# Altium schematic symbol library WP-RAFU.SchLib: 15 symbols
Pins are listed as number, name and electrical type; pins without a type are passive.

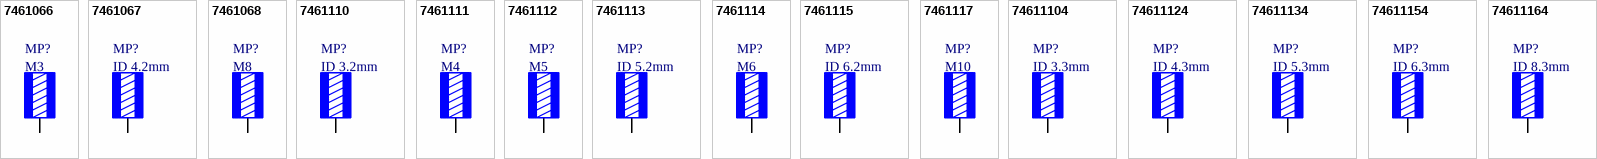
[diagram p0: symbols 7461066 to 74611164]

## 7461066
designator MP?, comment M3
WP-RAFU REDCUBE PRESS-FIT right angled, full plain, 7mm x 7mm x 14mm, M3, 130A; Manufacturer Part Number: 7461066; Manufacturer: Wurth Elektronik; Surface: Tin; Category: REDCUBE PRESS-FIT; Match Code: WP-RAFU; ComponentLink1Description: Website Link; ComponentLink1URL: https://www.we-online.com/redexpert/article/7461066?ad; ComponentLink2Description: Datasheet Link; ComponentLink2URL: https://www.we-online.com/redexpert/spec/7461066?ad; Mount: Press Fit; Min Operating Temperature: -55°C; Max Operating Temperature: 150°C; Packaging: Bulk; Length: 7mm; Width: 7mm; Height: 14mm; Material: Brass; Number of Pins: 9; Rated Current: 130A; Thread Size: M3
footprint 7461066_chemical surface
footprint 7461066_HAL
pins: 1

## 7461067
designator MP?, comment ID 4.2mm
WP-RAFU REDCUBE PRESS-FIT right angled, full plain, 9mm x 9mm x 14mm, ID 4.2mm, 180A; Manufacturer Part Number: 7461067; Manufacturer: Wurth Elektronik; Surface: Tin; Category: REDCUBE PRESS-FIT; Match Code: WP-RAFU; ComponentLink1Description: Website Link; ComponentLink1URL: https://www.we-online.com/redexpert/article/7461067?ad; ComponentLink2Description: Datasheet Link; ComponentLink2URL: https://www.we-online.com/redexpert/spec/7461067?ad; Mount: Press Fit; Min Operating Temperature: -55°C; Max Operating Temperature: 150°C; Packaging: Tray; Length: 9mm; Width: 9mm; Height: 14mm; Inner Diameter: 4.2mm; Material: Brass; Number of Pins: 16; Rated Current: 180A
footprint 7461067_chemical surface
footprint 7461067_HAL
pins: 1

## 7461068
designator MP?, comment M8
WP-RAFU REDCUBE PRESS-FIT right angled, full plain, 13mm x 13mm x 20mm, M8, 250A; Manufacturer Part Number: 7461068; Manufacturer: Wurth Elektronik; Surface: Tin; Category: REDCUBE PRESS-FIT; Match Code: WP-RAFU; ComponentLink1Description: Website Link; ComponentLink1URL: https://www.we-online.com/redexpert/article/7461068?ad; ComponentLink2Description: Datasheet Link; ComponentLink2URL: https://www.we-online.com/redexpert/spec/7461068?ad; Mount: Press Fit; Min Operating Temperature: -55°C; Max Operating Temperature: 150°C; Packaging: Tray; Length: 13mm; Width: 13mm; Height: 20mm; Material: Brass; Number of Pins: 25; Rated Current: 250A; Thread Size: M8
footprint 7461068_chemical surface
footprint 7461068_HAL
pins: 1

## 7461110
designator MP?, comment ID 3.2mm
WP-RAFU REDCUBE PRESS-FIT right angled, full plain, 7mm x 7mm x 14mm, ID 3.2mm, 130A; Manufacturer Part Number: 7461110; Manufacturer: Wurth Elektronik; Surface: Tin; Category: REDCUBE PRESS-FIT; Match Code: WP-RAFU; ComponentLink1Description: Website Link; ComponentLink1URL: https://www.we-online.com/redexpert/article/7461110?ad; ComponentLink2Description: Datasheet Link; ComponentLink2URL: https://www.we-online.com/redexpert/spec/7461110?ad; Mount: Press Fit; Min Operating Temperature: -55°C; Max Operating Temperature: 150°C; Packaging: Bulk; Length: 7mm; Width: 7mm; Height: 14mm; Inner Diameter: 3.2mm; Material: Brass; Number of Pins: 9; Rated Current: 130A
footprint 7461110_chemical surface
footprint 7461110_HAL
pins: 1

## 7461111
designator MP?, comment M4
WP-RAFU REDCUBE PRESS-FIT right angled, full plain, 9mm x 9mm x 14mm, M4, 180A; Manufacturer Part Number: 7461111; Manufacturer: Wurth Elektronik; Surface: Tin; Category: REDCUBE PRESS-FIT; Match Code: WP-RAFU; ComponentLink1Description: Website Link; ComponentLink1URL: https://www.we-online.com/redexpert/article/7461111?ad; ComponentLink2Description: Datasheet Link; ComponentLink2URL: https://www.we-online.com/redexpert/spec/7461111?ad; Mount: Press Fit; Min Operating Temperature: -55°C; Max Operating Temperature: 150°C; Packaging: Tray; Length: 9mm; Width: 9mm; Height: 14mm; Material: Brass; Number of Pins: 16; Rated Current: 180A; Thread Size: M4
footprint 7461111_chemical surface
footprint 7461111_HAL
pins: 1

## 7461112
designator MP?, comment M5
WP-RAFU REDCUBE PRESS-FIT right angled, full plain, 9mm x 9mm x 14mm, M5, 180A; Manufacturer Part Number: 7461112; Manufacturer: Wurth Elektronik; Surface: Tin; Category: REDCUBE PRESS-FIT; Match Code: WP-RAFU; ComponentLink1Description: Website Link; ComponentLink1URL: https://www.we-online.com/redexpert/article/7461112?ad; ComponentLink2Description: Datasheet Link; ComponentLink2URL: https://www.we-online.com/redexpert/spec/7461112?ad; Mount: Press Fit; Min Operating Temperature: -55°C; Max Operating Temperature: 150°C; Packaging: Tray; Length: 9mm; Width: 9mm; Height: 14mm; Material: Brass; Number of Pins: 16; Rated Current: 180A; Thread Size: M5
footprint 7461112_chemical surface
footprint 7461112_HAL
pins: 1

## 7461113
designator MP?, comment ID 5.2mm
WP-RAFU REDCUBE PRESS-FIT right angled, full plain, 9mm x 9mm x 14mm, ID 5.2mm, 180A; Manufacturer Part Number: 7461113; Manufacturer: Wurth Elektronik; Surface: Tin; Category: REDCUBE PRESS-FIT; Match Code: WP-RAFU; ComponentLink1Description: Website Link; ComponentLink1URL: https://www.we-online.com/redexpert/article/7461113?ad; ComponentLink2Description: Datasheet Link; ComponentLink2URL: https://www.we-online.com/redexpert/spec/7461113?ad; Mount: Press Fit; Min Operating Temperature: -55°C; Max Operating Temperature: 150°C; Packaging: Tray; Length: 9mm; Width: 9mm; Height: 14mm; Inner Diameter: 5.2mm; Material: Brass; Number of Pins: 16; Rated Current: 180A
footprint 7461113_chemical surface
footprint 7461113_HAL
pins: 1

## 7461114
designator MP?, comment M6
WP-RAFU REDCUBE PRESS-FIT right angled, full plain, 13mm x 13mm x 20mm, M6, 250A; Manufacturer Part Number: 7461114; Manufacturer: Wurth Elektronik; Surface: Tin; Category: REDCUBE PRESS-FIT; Match Code: WP-RAFU; ComponentLink1Description: Website Link; ComponentLink1URL: https://www.we-online.com/redexpert/article/7461114?ad; ComponentLink2Description: Datasheet Link; ComponentLink2URL: https://www.we-online.com/redexpert/spec/7461114?ad; Mount: Press Fit; Min Operating Temperature: -55°C; Max Operating Temperature: 150°C; Packaging: Tray; Length: 13mm; Width: 13mm; Height: 20mm; Material: Brass; Number of Pins: 25; Rated Current: 250A; Thread Size: M6
footprint 7461114_chemical surface
footprint 7461114_HAL
pins: 1

## 7461115
designator MP?, comment ID 6.2mm
WP-RAFU REDCUBE PRESS-FIT right angled, full plain, 13mm x 13mm x 20mm, ID 6.2mm, 250A; Manufacturer Part Number: 7461115; Manufacturer: Wurth Elektronik; Surface: Tin; Category: REDCUBE PRESS-FIT; Match Code: WP-RAFU; ComponentLink1Description: Website Link; ComponentLink1URL: https://www.we-online.com/redexpert/article/7461115?ad; ComponentLink2Description: Datasheet Link; ComponentLink2URL: https://www.we-online.com/redexpert/spec/7461115?ad; Mount: Press Fit; Min Operating Temperature: -55°C; Max Operating Temperature: 150°C; Packaging: Tray; Length: 13mm; Width: 13mm; Height: 20mm; Inner Diameter: 6.2mm; Material: Brass; Number of Pins: 25; Rated Current: 250A
footprint 7461115_chemical surface
footprint 7461115_HAL
pins: 1

## 7461117
designator MP?, comment M10
WP-RAFU REDCUBE PRESS-FIT right angled, full plain, 16mm x 16mm x 25mm, M10, 350A; Manufacturer Part Number: 7461117; Manufacturer: Wurth Elektronik; Surface: Tin; Category: REDCUBE PRESS-FIT; Match Code: WP-RAFU; ComponentLink1Description: Website Link; ComponentLink1URL: https://www.we-online.com/redexpert/article/7461117?ad; ComponentLink2Description: Datasheet Link; ComponentLink2URL: https://www.we-online.com/redexpert/spec/7461117?ad; Mount: Press Fit; Min Operating Temperature: -55°C; Max Operating Temperature: 150°C; Packaging: Bulk; Length: 16mm; Width: 16mm; Height: 25mm; Material: Brass; Number of Pins: 36; Rated Current: 350A; Thread Size: M10
footprint 7461117_chemical surface
footprint 7461117_HAL
pins: 1

## 74611104
designator MP?, comment ID 3.3mm
WP-RAFU REDCUBE PRESS-FIT right angled, U-shape, 9mm x 9mm x 30mm, ID 3.3mm, 180A; Manufacturer Part Number: 74611104; Manufacturer: Wurth Elektronik; Surface: Tin; Category: REDCUBE PRESS-FIT; Match Code: WP-RAFU; ComponentLink1Description: Website Link; ComponentLink1URL: https://www.we-online.com/redexpert/article/74611104?ad; ComponentLink2Description: Datasheet Link; ComponentLink2URL: https://www.we-online.com/redexpert/spec/74611104?ad; Mount: Press Fit; Min Operating Temperature: -55°C; Max Operating Temperature: 150°C; Packaging: Bulk; Length: 9mm; Width: 9mm; Height: 30mm; Inner Diameter: 3.3mm; Material: Brass; Number of Pins: 16; Rated Current: 180A
footprint 74611104_chemical surface
footprint 74611104_HAL
pins: 1

## 74611124
designator MP?, comment ID 4.3mm
WP-RAFU REDCUBE PRESS-FIT right angled, U-shape, 9mm x 9mm x 30mm, ID 4.3mm, 180A; Manufacturer Part Number: 74611124; Manufacturer: Wurth Elektronik; Surface: Tin; Category: REDCUBE PRESS-FIT; Match Code: WP-RAFU; ComponentLink1Description: Website Link; ComponentLink1URL: https://www.we-online.com/redexpert/article/74611124?ad; ComponentLink2Description: Datasheet Link; ComponentLink2URL: https://www.we-online.com/redexpert/spec/74611124?ad; Mount: Press Fit; Min Operating Temperature: -55°C; Max Operating Temperature: 150°C; Packaging: Bulk; Length: 9mm; Width: 9mm; Height: 30mm; Inner Diameter: 4.3mm; Material: Brass; Number of Pins: 16; Rated Current: 180A
footprint 74611124_chemical surface
footprint 74611124_HAL
pins: 1

## 74611134
designator MP?, comment ID 5.3mm
WP-RAFU REDCUBE PRESS-FIT right angled, U-shape, 13mm x 13mm x 36mm, ID 5.3mm, 250A; Manufacturer Part Number: 74611134; Manufacturer: Wurth Elektronik; Surface: Tin; Category: REDCUBE PRESS-FIT; Match Code: WP-RAFU; ComponentLink1Description: Website Link; ComponentLink1URL: https://www.we-online.com/redexpert/article/74611134?ad; ComponentLink2Description: Datasheet Link; ComponentLink2URL: https://www.we-online.com/redexpert/spec/74611134?ad; Mount: Press Fit; Min Operating Temperature: -55°C; Max Operating Temperature: 150°C; Packaging: Bulk; Length: 13mm; Width: 13mm; Height: 36mm; Inner Diameter: 5.3mm; Material: Brass; Number of Pins: 16; Rated Current: 250A
footprint 74611134_chemical surface
footprint 74611134_HAL
pins: 1

## 74611154
designator MP?, comment ID 6.3mm
WP-RAFU REDCUBE PRESS-FIT right angled, U-shape, 13mm x 13mm x 36mm, ID 6.3mm, 250A; Manufacturer Part Number: 74611154; Manufacturer: Wurth Elektronik; Surface: Tin; Category: REDCUBE PRESS-FIT; Match Code: WP-RAFU; ComponentLink1Description: Website Link; ComponentLink1URL: https://www.we-online.com/redexpert/article/74611154?ad; ComponentLink2Description: Datasheet Link; ComponentLink2URL: https://www.we-online.com/redexpert/spec/74611154?ad; Mount: Press Fit; Min Operating Temperature: -55°C; Max Operating Temperature: 150°C; Packaging: Bulk; Length: 13mm; Width: 13mm; Height: 36mm; Inner Diameter: 6.3mm; Material: Brass; Number of Pins: 25; Rated Current: 250A
footprint 74611154_chemical surface
footprint 74611154_HAL
pins: 1

## 74611164
designator MP?, comment ID 8.3mm
WP-RAFU REDCUBE PRESS-FIT right angled, U-shape, 16mm x 16mm x 39mm, ID 8.3mm, 350A; Manufacturer Part Number: 74611164; Manufacturer: Wurth Elektronik; Surface: Tin; Category: REDCUBE PRESS-FIT; Match Code: WP-RAFU; ComponentLink1Description: Website Link; ComponentLink1URL: https://www.we-online.com/redexpert/article/74611164?ad; ComponentLink2Description: Datasheet Link; ComponentLink2URL: https://www.we-online.com/redexpert/spec/74611164?ad; Mount: Press Fit; Min Operating Temperature: -55°C; Max Operating Temperature: 150°C; Packaging: Bulk; Length: 16mm; Width: 16mm; Height: 39mm; Inner Diameter: 8.3mm; Material: Brass; Number of Pins: 36; Rated Current: 350A
footprint 74611164_chemical surface
footprint 74611164_HAL
pins: 1